# Altium schematic symbol library HallEffect.SchLib: 2 symbols
Pins are listed as number, name and electrical type; pins without a type are passive.

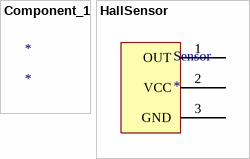
[diagram p0: symbols Component_1 to HallSensor]

## Component_1
designator *

## HallSensor
designator Sensor
footprint HallSensor
pins: 1 OUT, 2 VCC, 3 GND